# EAGLE library part USB_MICROB_PLUG (library Cerebro-library)
USB Micro-B connectors Some male, some female. Watch your step!
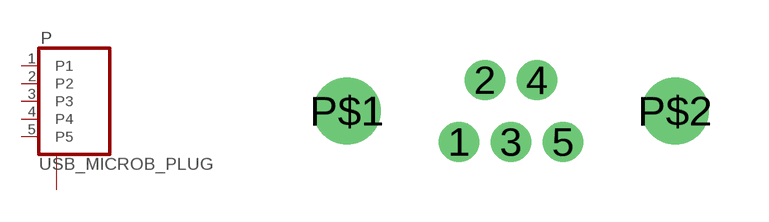
[diagram p1: symbol with the pads of MICRO-B-TH; footprint MICRO-B-TH]

Designator prefix P

## USB_MICROB_PLUG-PTH2  [MICRO-B-TH]
1  P1
2  P2
3  P3
4  P4
5  P5
P$1  GND_PINS
P$2  GND_PINS

## Footprint MICRO-B-TH (pad centres in mm)
Micro B USB Plug Assembly - Straight Through-hole See Digikey part #H125237-ND
drill 0.5 pad 0.813: 1 -1.3,-0.775; 2 -0.65,0.775; 3 0,-0.775; 4 0.65,0.775; 5 1.3,-0.775
drill 0.7 pad 1.676: P$1 -4.1,0; P$2 4.1,0